# Altium footprint library SMD-Packages.PcbLib: 34 footprints (part 3 of 3)
Each footprint in its own frame and in the unit in brackets; x right, y up, seen from the top. Pads: shape width x height; smd on the part's side, far side on the other; paste and mask are expansions set on the pad; w line width, h text height; cw(c..) or ccw(c..) is an arc to the next point about the centre after c.
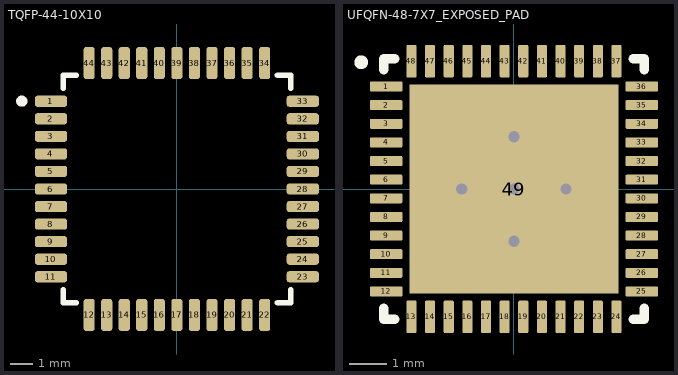
[diagram p2: the footprints below, top view; thin cyan lines are the x and y axes]

## TQFP-44-10X10 [mil]
pads (44):
  rrect50% 58x20 smd paste+0: 1(-226,157.48) 2(-226,125.98) 3(-226,94.49) 4(-226,62.99) 5(-226,31.5) 6(-226,0) 7(-226,-31.5) 8(-226,-62.99) 9(-226,-94.49) 10(-226,-125.98) 11(-226,-157.48) 23(226,-157.48) 24(226,-125.98) 25(226,-94.49) 26(226,-62.99) 27(226,-31.5) 28(226,0) 29(226,31.5) 30(226,62.99) 31(226,94.49) 32(226,125.98) 33(226,157.48)
  rrect50% 20x58 smd paste+0: 12(-157.48,-226) 13(-125.98,-226) 14(-94.49,-226) 15(-62.99,-226) 16(-31.5,-226) 17(0,-226) 18(31.5,-226) 19(62.99,-226) 20(94.49,-226) 21(125.98,-226) 22(157.48,-226) 34(157.48,226) 35(125.98,226) 36(94.49,226) 37(62.99,226) 38(31.5,226) 39(0,226) 40(-31.5,226) 41(-62.99,226) 42(-94.49,226) 43(-125.98,226) 44(-157.48,226)
Top Overlay:
  circle w10: c-278.35,157.68 r5
  lines w10: -204,-180.58 -204,-204 -180.58,-204 ; -204,180.58 -204,204 -180.58,204 ; 180.58,-204 204,-204 204,-180.58 ; 180.58,204 204,204 204,180.58
3D body "ATMEGA32A-AUR.step": height 47.24, standoff 0, extent -236.22,-236.22 236.22,236.22

## UFQFN-48-7X7_EXPOSED_PAD [mm]
pads (49):
  rrect25% 0.87x0.27 smd mask+0: 1(-3.43,2.75) 2(-3.43,2.25) 3(-3.43,1.75) 4(-3.43,1.25) 5(-3.43,0.75) 6(-3.43,0.25) 7(-3.43,-0.25) 8(-3.43,-0.75) 9(-3.43,-1.25) 10(-3.43,-1.75) 11(-3.43,-2.25) 12(-3.43,-2.75) 25(3.43,-2.75) 26(3.43,-2.25) 27(3.43,-1.75) 28(3.43,-1.25) 29(3.43,-0.75) 30(3.43,-0.25) 31(3.43,0.25) 32(3.43,0.75) 33(3.43,1.25) 34(3.43,1.75) 35(3.43,2.25) 36(3.43,2.75)
  rrect25% 0.27x0.87 smd mask+0: 13(-2.75,-3.43) 14(-2.25,-3.43) 15(-1.75,-3.43) 16(-1.25,-3.43) 17(-0.75,-3.43) 18(-0.25,-3.43) 19(0.25,-3.43) 20(0.75,-3.43) 21(1.25,-3.43) 22(1.75,-3.43) 23(2.25,-3.43) 24(2.75,-3.43) 37(2.75,3.43) 38(2.25,3.43) 39(1.75,3.43) 40(1.25,3.43) 41(0.75,3.43) 42(0.25,3.43) 43(-0.25,3.43) 44(-0.75,3.43) 45(-1.25,3.43) 46(-1.75,3.43) 47(-2.25,3.43) 48(-2.75,3.43)
  rect 5.6x5.6 smd paste-4 mask+0: 49(0,0)
via 0,0 diameter 0.6 hole 0.3
via 1.4,0 diameter 0.6 hole 0.3
via 0,-1.4 diameter 0.6 hole 0.3
via 0,1.4 diameter 0.6 hole 0.3
via -1.4,0 diameter 0.6 hole 0.3
Top Overlay:
  circle w0.2: c-4.1,3.4 r0.085
  lines w0.254: -3.5,-3.205 -3.5,-3.5 -3.205,-3.5 ; -3.5,3.205 -3.5,3.5 -3.205,3.5 ; 3.205,-3.5 3.5,-3.5 3.5,-3.205 ; 3.205,3.5 3.5,3.5 3.5,3.205
Top Paste:
  region: 2.29,-2.29 0.51,-2.29 0.51,-0.51 2.29,-0.51
  region: -0.51,-2.29 -2.29,-2.29 -2.29,-0.51 -0.51,-0.51
  region: 2.29,0.51 0.51,0.51 0.51,2.29 2.29,2.29
  region: -0.51,0.51 -2.29,0.51 -2.29,2.29 -0.51,2.29
3D body "48-UFQFN_EXPOSED-PAD.STEP": height 0.6, standoff 0, extent -3.5,-3.5 3.5,3.5